# Altium footprint library Molex Microfit 3.0 1x2.PcbLib: 1 footprints
Each footprint in its own frame and in the unit in brackets; x right, y up, seen from the top. Pads: shape width x height; smd on the part's side, far side on the other; paste and mask are expansions set on the pad; w line width, h text height; cw(c..) or ccw(c..) is an arc to the next point about the centre after c.
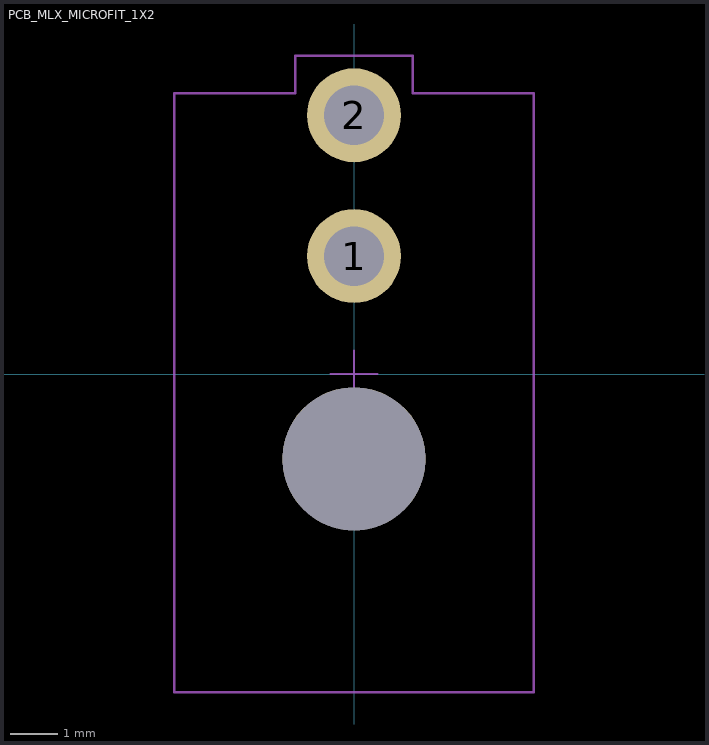
[diagram p0: the footprint, top view; thin cyan lines are the x and y axes]

## PCB_MLX_MICROFIT_1X2 [mm]
pads (3):
  round 2 hole 1.27: 1(0,2.511) 2(0,5.508)
  round 3.048 hole 3.048 unplated: ""(0,-1.807)
Mechanical 6:
  text "'.Designator'" at -2.15,-0.175 h0.6
Mechanical 8:
  lines w0.05: -3.825,-6.775 -3.825,5.975 -1.25,5.975 -1.25,6.775 1.25,6.775 1.25,5.975 3.825,5.975 3.825,-6.775 -3.825,-6.775
Mechanical 15:
  lines w0.05: -0.5,0 0.5,0 ; 0,-0.5 0,0.5 ; -3.825,-6.775 3.825,-6.775 3.825,5.975 1.25,5.975 1.25,6.775 -1.25,6.775 -1.25,5.975 -3.825,5.975 -3.825,-6.775
3D body "430450200.stp": height 8.77, standoff -3.18, extent -3.575,-6.525 3.575,5.715